# EAGLE library part LOGIC-74HC4051PW(TSSOP16) (library Seeed-OPL-ic)
310070017
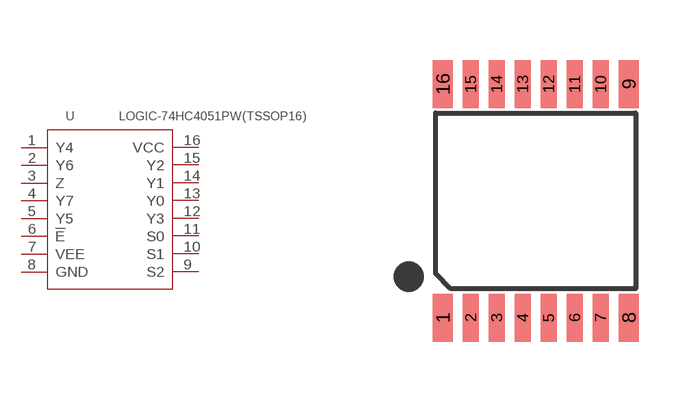
[diagram p40: symbol with the pads of TSSOP16-0.65-5X4.4MM; footprint TSSOP16-0.65-5X4.4MM]

Designator prefix U

## LOGIC-74HC4051PW(TSSOP16) (MPN: 74HC4051PW; VALUE: 74HC4051PW-TSSOP16)  [TSSOP16-0.65-5X4.4MM]
1  Y4
2  Y6
3  Z
4  Y7
5  Y5
6  !E
7  VEE
8  GND  sup
9  S2  in
10  S1  in
11  S0  in
12  Y3
13  Y0
14  Y1
15  Y2  sup
16  VCC  in

## Footprint TSSOP16-0.65-5X4.4MM (pad centres in mm)
TSOP16 thin small outline package
smd 0.5 x 1.2: 1 -2.325,-2.925; 8 2.325,-2.925; 9 2.325,2.925; 16 -2.325,2.925
smd 0.4 x 1.2: 2 -1.625,-2.925; 3 -0.975,-2.925; 4 -0.325,-2.925; 5 0.325,-2.925; 6 0.975,-2.925; 7 1.625,-2.925; 10 1.625,2.925; 11 0.975,2.925; 12 0.325,2.925; 13 -0.325,2.925; 14 -0.975,2.925; 15 -1.625,2.925